# Altium footprint library power_resistor.PcbLib: 11 footprints
Each footprint in its own frame and in the unit in brackets; x right, y up, seen from the top. Pads: shape width x height; smd on the part's side, far side on the other; paste and mask are expansions set on the pad; w line width, h text height; cw(c..) or ccw(c..) is an arc to the next point about the centre after c.
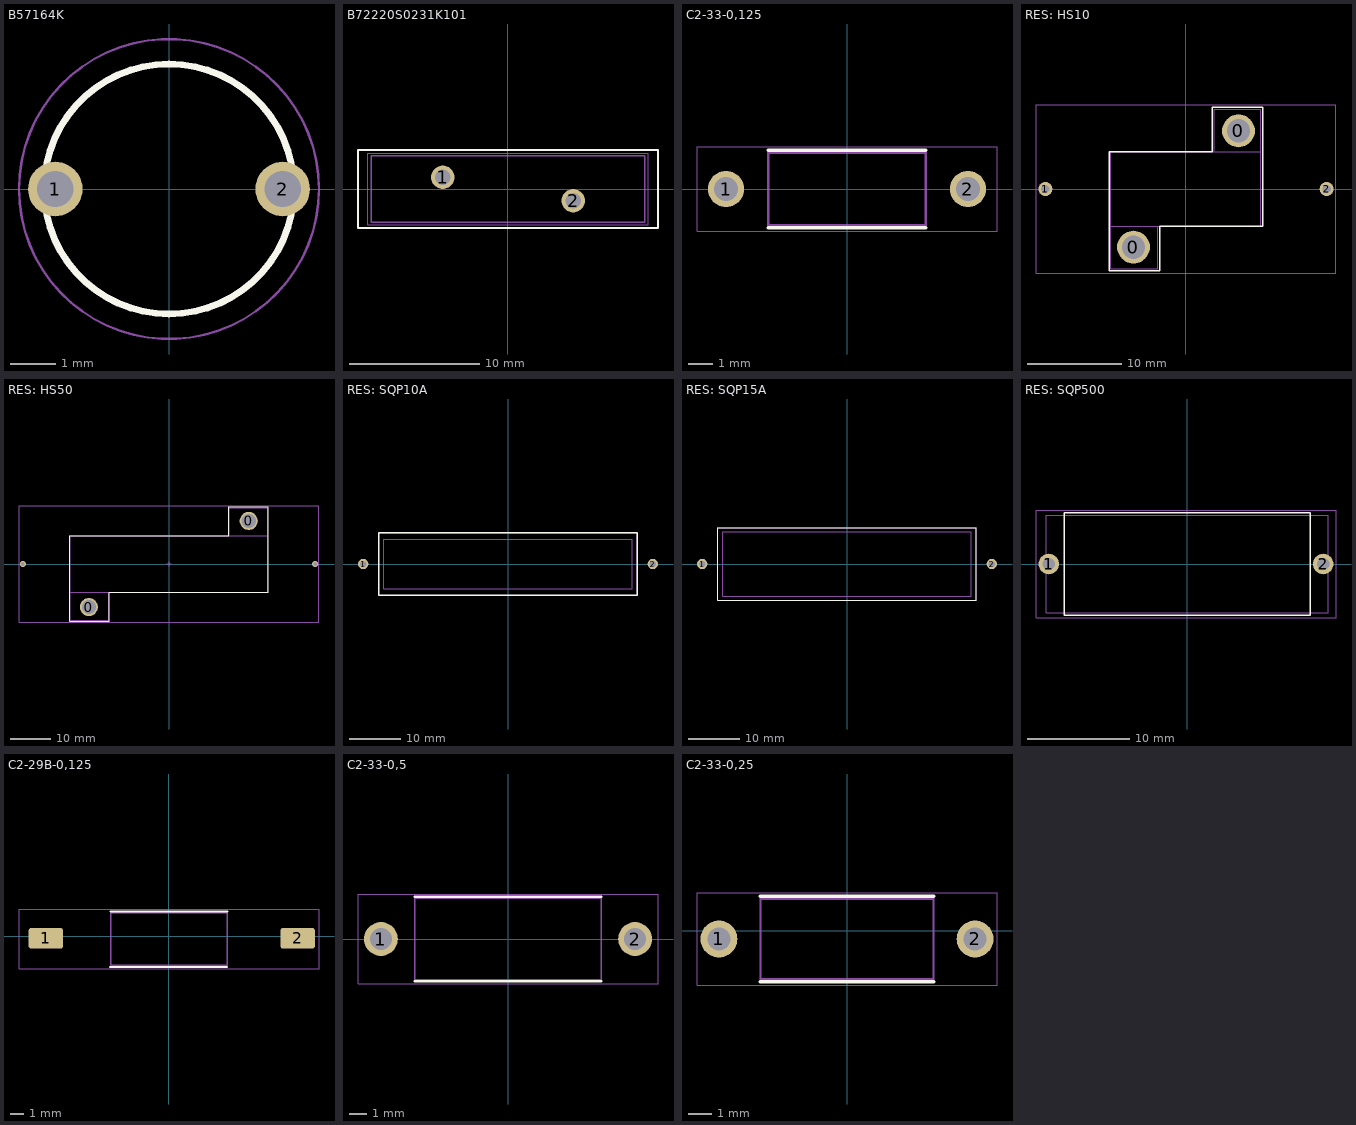
[diagram p0: the footprints below, top view; thin cyan lines are the x and y axes]

## B57164K [mm]
pads (2):
  round 1.2 hole 0.8: 1(-2.5,0) 2(2.5,0)
Top Overlay:
  circle w0.15: c0,0 r2.75
Top Assembly:
  circle w0.1: c0,0 r2.75
  text ".Designator" at -4.998,-0.333 h1
Top Courtyard (Mech15):
  circle w0.05: c0,0 r3.3

## B72220S0231K101 [mm]
pads (2):
  round 1.8 hole 1.2: 1(-5,0.9) 2(5,-0.9)
Top Overlay:
  lines w0.15: -11.5,-3 11.5,-3 11.5,3 -11.5,3 -11.5,-3
Top Assembly:
  lines w0.1: -10.5,-2.55 10.5,-2.55 10.5,2.55 -10.5,2.55 -10.5,-2.55
  text ".Designator" at -4.998,-0.333 h1
Top Courtyard (Mech15):
  lines w0.05: -10.75,-2.75 10.75,-2.75 10.75,2.75 -10.75,2.75 -10.75,-2.75
3D body "User Library-B72220S0421K101_V-1.step": height 27, standoff -3, extent -10,-3.25 10,3.25

## C2-33-0,125 [mm]
pads (2):
  round 1.5 hole 1: 1(-5,0) 2(5,0)
Top Overlay:
  lines w0.15: -3.25,-1.6 3.25,-1.6 ; -3.25,1.6 3.25,1.6
Top Assembly:
  lines w0.1: -3.25,-1.5 -3.25,1.5 3.25,1.5 3.25,-1.5 -3.25,-1.5
  text ".Designator" at -4.998,-0.333 h1
Top Courtyard (Mech15):
  lines w0.05: -6.2,-1.75 6.2,-1.75 6.2,1.75 -6.2,1.75 -6.2,-1.75

## RES: HS10 [mm]
pads (4):
  round 3.5 hole 2.5: 0(-5.6,-6.2) 0(5.6,6.2)
  round 1.5 hole 0.9: 1(-15,0) 2(15,0)
Top Overlay:
  lines w0.15: -2.8,-4 8.2,-4 8.2,8.7 2.8,8.7 2.8,4 -8.2,4 -8.2,-8.7 -2.8,-8.7 -2.8,-4 ; -2.8,-4 -2.8,-4
Top Assembly:
  lines w0.1: -8,-4 8,-4 8,8.5 3,8.5 3,4 ; -3,-4 -3,-8.5 -8,-8.5 -8,4 8,4
  text ".Designator" at -4.998,-0.333 h1
Top Courtyard (Mech15):
  lines w0.05: -16,-9 -16,9 16,9 16,-9 -16,-9

## RES: HS50 [mm]
pads (4):
  round 4.5 hole 3.5: 0(-19.9,-10.7) 0(19.8,10.7)
  round 1.5 hole 0.9: 1(-36.3,0) 2(36.3,0)
Top Overlay:
  lines w0.15: -14.8,-7 -14.8,-14.2 -24.7,-14.2 -24.7,7 14.8,7 14.8,14.2 24.7,14.2 24.7,-7 -14.8,-7 ; -14.8,-7 -14.8,-7
Top Assembly:
  lines w0.1: -24.5,-7 24.5,-7 24.5,14 15,14 15,7 ; -15,-7 -15,-14 -24.5,-14 -24.5,7 24.5,7
  text ".Designator" at -4.998,-0.333 h1
Top Courtyard (Mech15):
  lines w0.05: -0.5,0 0.5,0 ; 0,-0.5 0,0.5 ; -37.25,-14.5 -37.25,14.5 37.25,14.5 37.25,-14.5 -37.25,-14.5

## RES: SQP10A [mm]
pads (2):
  round 2 hole 1.2: 1(-28,0) 2(28,0)
Top Overlay:
  lines w0.254: -25,-6 25,-6 25,6 -25,6 -25,-6
Top Assembly:
  lines w0.1: -24,-4.75 24,-4.75 24,4.75 -24,4.75 -24,-4.75
  text ".Designator" at -4.998,-0.333 h1
Bottom Courtyard (Mech16):
  lines w0.05: -25,-6 25,-6 25,6 -25,6 -25,-6
3D body: height 9, standoff 0, extent -24,-4.75 24,4.75

## RES: SQP15A [mm]
pads (2):
  round 2 hole 1.2: 1(-28,0) 2(28,0)
Top Overlay:
  lines w0.15: -25,-7 25,-7 25,7 -25,7 -25,-7
Top Assembly:
  lines w0.1: -24,-6.25 24,-6.25 24,6.25 -24,6.25 -24,-6.25
  text ".Designator" at -4.998,-0.333 h1
Top Courtyard (Mech15):
  lines w0.05: -25,-7 25,-7 25,7 -25,7 -25,-7
3D body: height 12.5, standoff 0, extent -24,-6.25 24,6.25

## RES: SQP500 [mm]
pads (2):
  round 2 hole 1.2: 1(-13.5,0) 2(13.25,0)
Top Overlay:
  lines w0.15: -12,-5 12,-5 12,5 -12,5 -12,-5
Top Assembly:
  lines w0.1: -13.75,-4.75 13.75,-4.75 13.75,4.75 -13.75,4.75 -13.75,-4.75
  text ".Designator" at -4.998,-0.333 h1
Top Courtyard (Mech15):
  lines w0.05: -14.75,-5.25 14.5,-5.25 14.5,5.25 -14.75,5.25 -14.75,-5.25
3D body "SQP500JB-47R--3DModel-STEP-269445.STEP": height 9, standoff -23.5, extent -13.8,-4.75 13.8,4.75

## С2-29В-0,125 [mm]
pads (2):
  rrect25% 2.5x1.5 smd: 1(-8.95,-0.15) 2(9.35,-0.15)
Top Overlay:
  lines w0.15: -4.28,-2.224 4.22,-2.224 ; -4.25,1.8 4.25,1.8
Top Assembly:
  lines w0.1: -4.25,-2.1 -4.25,1.7 4.25,1.7 4.25,-2.1 -4.25,-2.1
  text ".Designator" at -4.998,-0.333 h1
Top Courtyard (Mech15):
  lines w0.05: -10.9,-2.35 10.9,-2.35 10.9,1.95 -10.65,1.95 -10.9,1.95 -10.9,-2.35

## С2-33-0,5 [mm]
pads (2):
  round 2 hole 1.3: 1(-7.5,0) 2(7.5,0)
Top Overlay:
  lines w0.15: -5.5,-2.5 5.5,-2.5 ; -5.5,2.5 5.5,2.5
Top Assembly:
  lines w0.1: -5.5,-2.4 5.5,-2.4 5.5,2.4 -5.5,2.4 -5.5,-2.4
  text ".Designator" at -4.998,-0.333 h1
Top Courtyard (Mech15):
  lines w0.05: -8.85,-2.65 -8.85,2.65 8.85,2.65 8.85,-2.65 -8.85,-2.65

## С2-33-0,25 [mm]
pads (2):
  round 1.6 hole 1: 1(-5.55,-0.35) 2(5.55,-0.35)
Top Overlay:
  lines w0.15: -3.75,-2.2 3.75,-2.2 ; -3.75,1.5 3.75,1.5
Top Assembly:
  lines w0.1: -3.75,-2.1 3.75,-2.1 3.75,1.4 -3.75,1.4 -3.75,-2.1
  text ".Designator" at -4.998,-0.333 h1
Top Courtyard (Mech15):
  lines w0.05: -6.5,-2.35 6.5,-2.35 6.5,1.65 -6.5,1.65 -6.5,-2.35